# Altium footprint library tube base.PcbLib: 1 footprints
Each footprint in its own frame and in the unit in brackets; x right, y up, seen from the top. Pads: shape width x height; smd on the part's side, far side on the other; paste and mask are expansions set on the pad; w line width, h text height; cw(c..) or ccw(c..) is an arc to the next point about the centre after c.
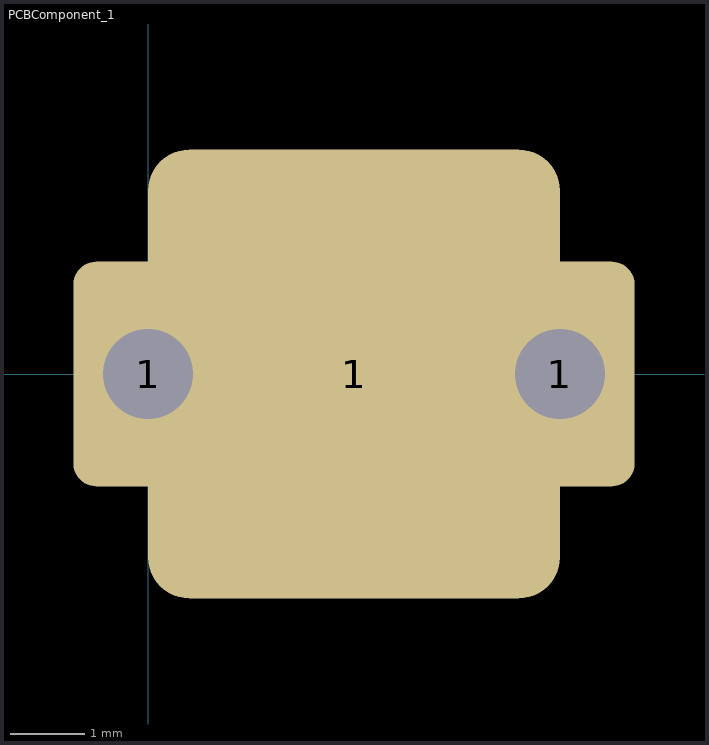
[diagram p0: the footprint, top view; thin cyan lines are the x and y axes]

## PCBComponent_1 [mm]
pads (4):
  rrect30% 2x3 hole 1.2 square: 1(0,0) 1(5.5,0)
  rrect20% 5.5x6 smd: 1(2.75,0)
  rrect50% 5x2.5 smd far side: 1(2.75,0)